# EAGLE library part SPX2954 (library lightuino3.lbrlightuino3.1)
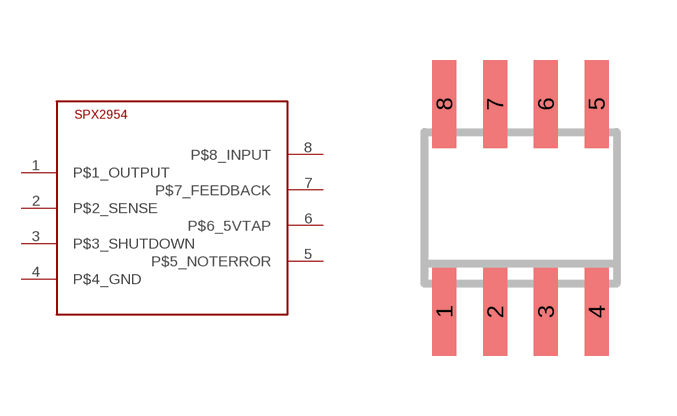
[diagram p13: symbol with the pads of SO08; footprint SO08]

Designator prefix -

## SPX2954  [SO08]
1  P$1_OUTPUT
2  P$2_SENSE
3  P$3_SHUTDOWN
4  P$4_GND
5  P$5_NOTERROR
6  P$6_5VTAP
7  P$7_FEEDBACK
8  P$8_INPUT

## Footprint SO08 (pad centres in mm)
SMALL OUTLINE INTEGRATED CIRCUIT body 3.9 mm/JEDEC MS-012AA
smd 0.6 x 2.2: 1 -1.905,-2.6; 2 -0.635,-2.6; 3 0.635,-2.6; 4 1.905,-2.6; 5 1.905,2.6; 6 0.635,2.6; 7 -0.635,2.6; 8 -1.905,2.6